# Altium footprint library CONN-FPC-501951-4009.PcbLib: 1 footprints
Each footprint in its own frame and in the unit in brackets; x right, y up, seen from the top. Pads: shape width x height; smd on the part's side, far side on the other; paste and mask are expansions set on the pad; w line width, h text height; cw(c..) or ccw(c..) is an arc to the next point about the centre after c.
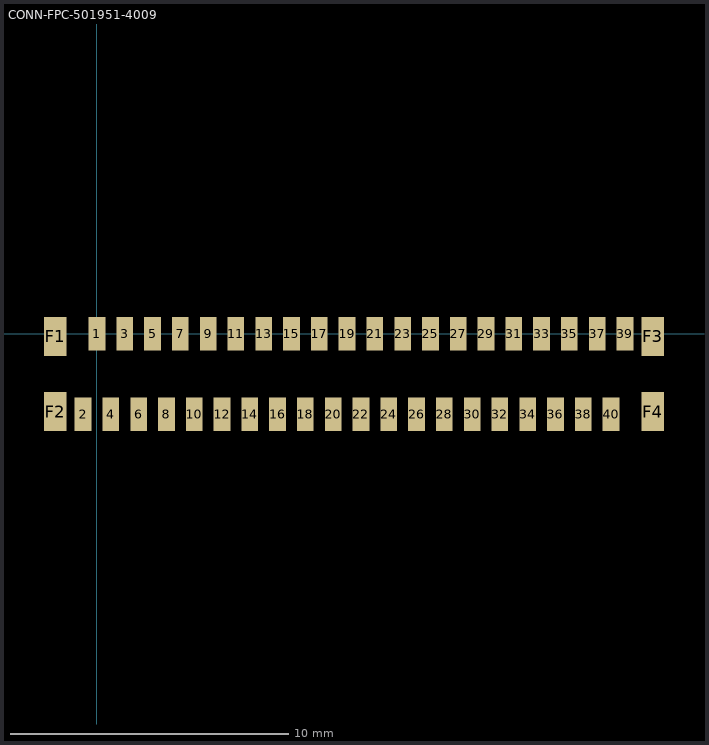
[diagram p0: the footprint, top view; thin cyan lines are the x and y axes]

## CONN-FPC-501951-4009 [mm]
pads (44):
  rect 0.6x1.2 smd: 1(0,0) 2(-0.5,-2.9) 3(1,0) 4(0.5,-2.9) 5(2,0) 6(1.5,-2.9) 7(3,0) 8(2.5,-2.9) 9(4,0) 10(3.5,-2.9) 11(5,0) 12(4.5,-2.9) 13(6,0) 14(5.5,-2.9) 15(7,0) 16(6.5,-2.9) 17(8,0) 18(7.5,-2.9) 19(9,0) 20(8.5,-2.9) 21(10,0) 22(9.5,-2.9) 23(11,0) 24(10.5,-2.9) 25(12,0) 26(11.5,-2.9) 27(13,0) 28(12.5,-2.9) 29(14,0) 30(13.5,-2.9) 31(15,0) 32(14.5,-2.9) 33(16,0) 34(15.5,-2.9) 35(17,0) 36(16.5,-2.9) 37(18,0) 38(17.5,-2.9) 39(19,0) 40(18.5,-2.9)
  rect 0.8x1.4 smd: F1(-1.5,-0.1) F2(-1.5,-2.8) F3(20,-0.1) F4(20,-2.8)
3D body: height 3.99, standoff -0.06, extent -2.1,-3.35 20.7,1.15